# Altium footprint library STC89C52.PcbLib: 17 footprints (part 1 of 2)
Each footprint in its own frame and in the unit in brackets; x right, y up, seen from the top. Pads: shape width x height; smd on the part's side, far side on the other; paste and mask are expansions set on the pad; w line width, h text height; cw(c..) or ccw(c..) is an arc to the next point about the centre after c.
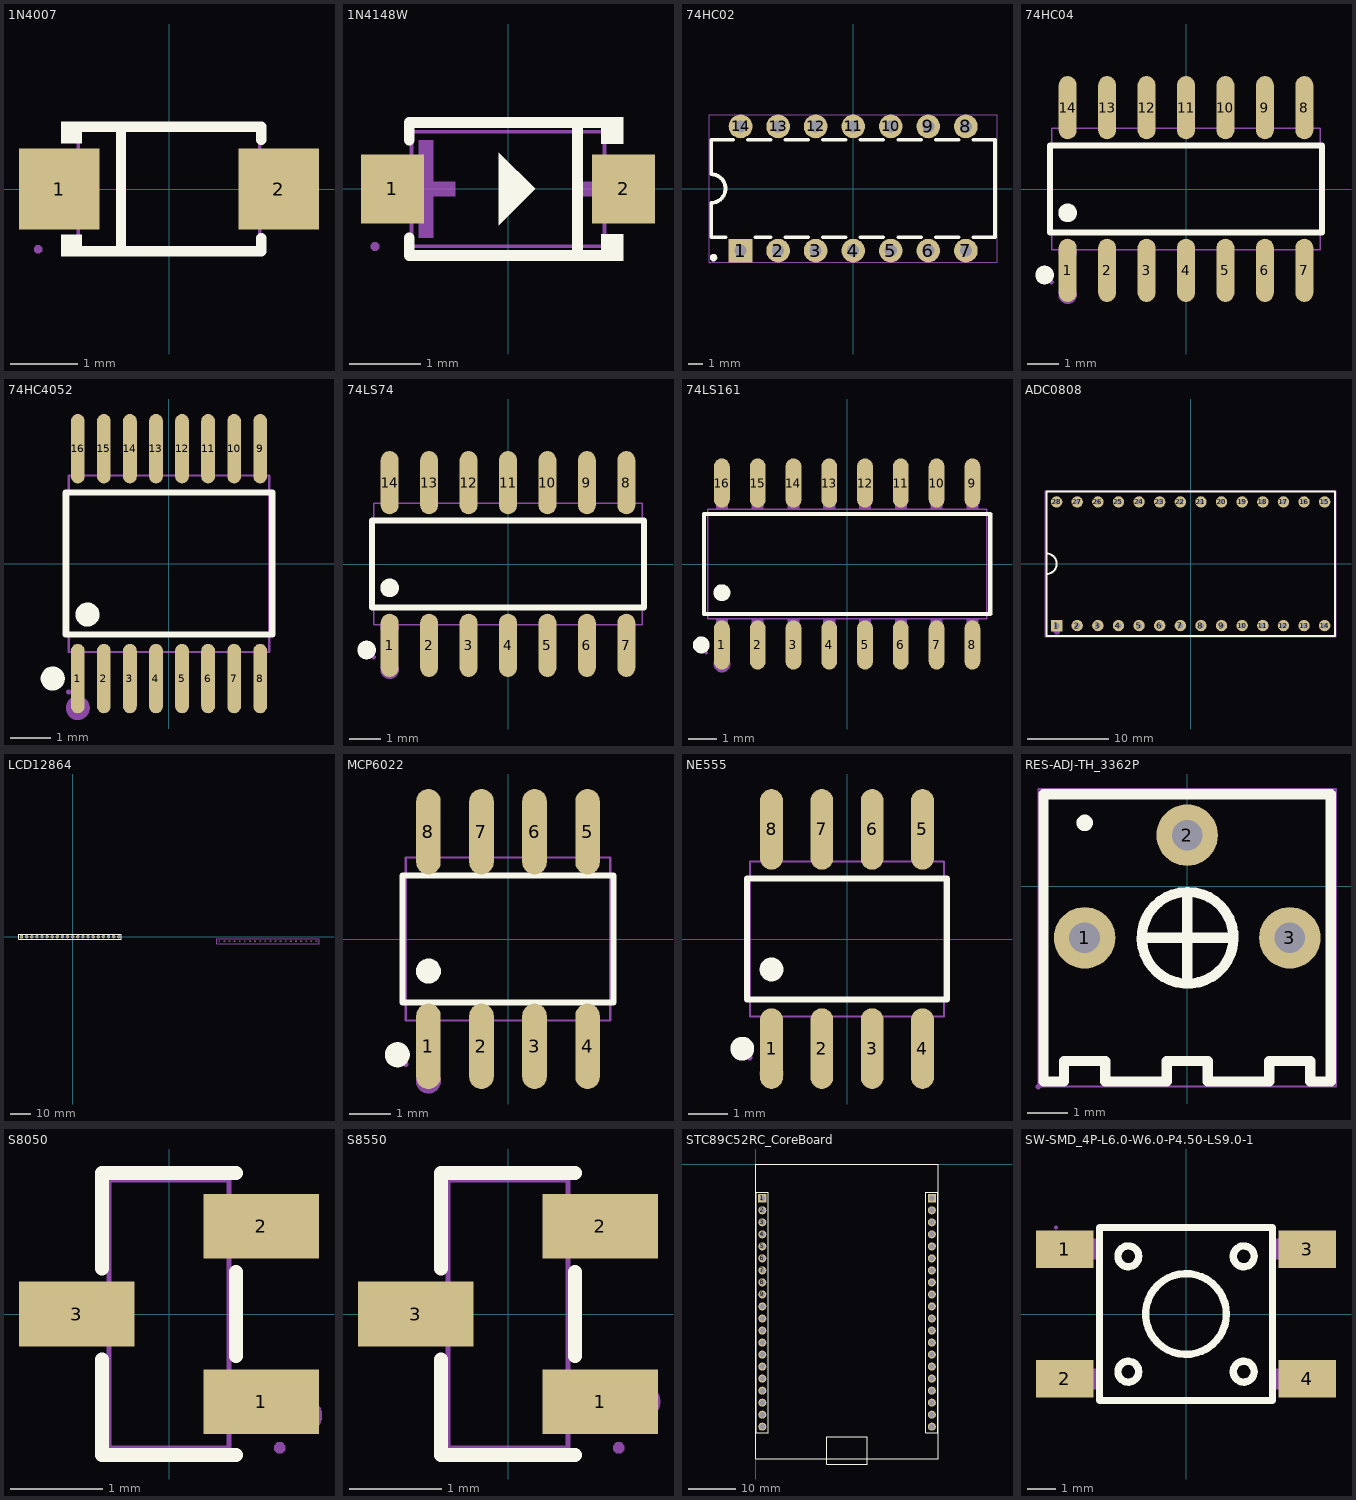
[diagram p0: the footprints below, top view; thin cyan lines are the x and y axes]

## 1N4007 [mm]
pads (2):
  rect 1.2x1.2 smd paste+0.051: 1(-1.635,0) 2(1.635,0)
Top Overlay:
  region: -1.3,-1.002 -1.3,-0.682 -1.605,-0.682 -1.605,-1.002
  region: -1.3,1.002 -1.3,0.682 -1.605,0.682 -1.605,1.002
  lines w0.152: -1.376,-0.926 1.376,-0.926 1.376,-0.733 ; -1.376,0.926 1.376,0.926 1.376,0.733 ; -0.717,-0.876 -0.717,0.876
Mechanical 2:
  region: 1.747,-0.384 1.555,-0.384 1.555,0.384 1.747,0.384
  region: 2.035,0.096 2.035,-0.096 1.267,-0.096 1.267,0.096
  region: -2.032,0.127 -2.032,-0.065 -1.264,-0.065 -1.264,0.127
Mechanical 6:
  lines w0.051: -1.35,-0.9 1.35,-0.9 1.35,0.9 -1.35,0.9 -1.35,-0.9
Mechanical 8:
  region: -1.89,-0.9 -1.89,-0.925 -1.925,-0.96 -1.975,-0.96 -2.01,-0.925 -2.01,-0.9 -2.01,-0.875 -1.975,-0.84 -1.925,-0.84 -1.89,-0.875 -1.89,-0.9
Mechanical 9:
  region: -1.95,0.475 -1.15,0.475 -1.15,-0.475 -1.95,-0.475
  region: 1.95,-0.475 1.15,-0.475 1.15,0.475 1.95,0.475

## 1N4148W [mm]
pads (2):
  rect 0.88x0.96 smd paste+0.051: 1(-1.61,0) 2(1.61,0)
Top Overlay:
  region: 1.3,-1.003 1.3,-0.632 1.605,-0.633 1.605,-1.003
  region: 1.3,1.002 1.3,0.632 1.605,0.632 1.605,1.002
  region: 0.381,0 -0.127,0.508 -0.127,-0.508
  lines w0.152: -1.376,-0.683 -1.376,-0.926 1.376,-0.926 ; -1.376,0.683 -1.376,0.926 1.376,0.926 ; 0.967,-0.926 0.967,0.926
Mechanical 2:
  region: 1.805,-0.102 1.805,0.102 0.989,0.102 0.989,-0.102
  region: -1.551,-0.102 -1.551,0.102 -0.735,0.102 -0.735,-0.102
  region: -1.245,-0.68 -1.245,0.68 -1.041,0.68 -1.041,-0.68
Mechanical 6:
  lines w0.051: -1.345,-0.8 1.345,-0.8 1.345,0.8 -1.345,0.8 -1.345,-0.8
Mechanical 7:
  region: 1.511,-0.3 1.511,0.3 1.34,0.3 1.34,-0.3
  region: -1.511,0.3 -1.511,-0.3 -1.34,-0.3 -1.34,0.3
Mechanical 8:
  region: -1.791,-0.8 -1.791,-0.825 -1.826,-0.86 -1.876,-0.86 -1.911,-0.825 -1.911,-0.8 -1.911,-0.775 -1.876,-0.74 -1.826,-0.74 -1.791,-0.775 -1.791,-0.8
Mechanical 9:
  region: 1.851,-0.3 1.501,-0.3 1.501,0.3 1.851,0.3
  region: -1.851,0.3 -1.501,0.3 -1.501,-0.3 -1.851,-0.3

## 74HC02 [mil]
pads (14):
  rect 63x63 hole 32 paste-99999: 1(-300,-165.35)
  round 63 hole 32 paste-99999: 2(-200,-165.35) 3(-100,-165.35) 4(0,-165.35) 5(100,-165.35) 6(200,-165.35) 7(300,-165.35) 8(300,165.35) 9(200,165.35) 10(100,165.35) 11(0,165.35) 12(-100,165.35) 13(-200,165.35) 14(-300,165.35)
Top Overlay:
  circle w10: c-372,-184 r5
  lines w10: -378,-38 ccw(c-377.98,0) -377.95,37.99 -377.95,129.92 -319.71,129.92 ; -377.95,-38 -377.95,-129.92 -339.69,-129.92 ; -280.29,129.92 -219.72,129.92 ; -260.31,-129.92 -219.72,-129.92 ; -180.28,-129.92 -119.72,-129.92 ; -180.28,129.92 -119.72,129.92 ; -80.28,-129.92 -19.71,-129.92 ; -80.28,129.92 -19.71,129.92 ; 19.71,-129.92 80.28,-129.92 ; 19.71,129.92 80.28,129.92 ; 119.72,-129.92 180.28,-129.92 ; 119.72,129.92 180.28,129.92 ; 219.72,-129.92 280.29,-129.92 ; 219.72,129.92 280.29,129.92 ; 319.71,-129.92 377.95,-129.92 377.95,129.92 319.71,129.92
Mechanical 6:
  lines w2: -382.95,-196.85 -382.95,196.85 382.95,196.85 382.95,-196.85 -382.95,-196.85
Mechanical 8:
  region: -380.59,-196.85 -380.59,-197.83 -381.97,-199.22 -383.93,-199.22 -385.31,-197.83 -385.31,-196.85 -385.31,-195.88 -383.93,-194.49 -381.97,-194.49 -380.59,-195.88 -380.59,-196.85
Mechanical 9:
  drawing of 14 lines, arcs and shapes, not listed

## 74HC04 [mm]
pads (14):
  oval 0.574x2.038 smd paste+0.051: 1(-3.81,-2.619) 2(-2.54,-2.619) 3(-1.27,-2.619) 4(0,-2.619) 5(1.27,-2.619) 6(2.54,-2.619) 7(3.81,-2.619) 8(3.81,2.619) 9(2.54,2.619) 10(1.27,2.619) 11(0,2.619) 12(-1.27,2.619) 13(-2.54,2.619) 14(-3.81,2.619)
Top Overlay:
  circle w0.3: c-3.81,-0.769 r0.15
  circle w0.3: c-4.549,-2.769 r0.15
  circle w0.3: c-4.549,-2.769 r0.15
  circle w0.3: c-3.81,-0.769 r0.15
  lines w0.2: -4.381,-1.397 -4.381,1.397 4.381,1.397 4.381,-1.397 -4.381,-1.397
Mechanical 2:
  circle w0.3: c-3.81,-2.037 r0.15
  circle w0.3: c-3.81,-3.4 r0.15
Mechanical 6:
  lines w0.051: -4.325,-1.95 4.325,-1.95 ; -4.325,-1.95 -4.325,1.95 ; -4.325,-1.95 4.325,-1.95 ; -4.325,-1.95 -4.325,1.95 ; -4.325,1.95 4.325,1.95 ; -4.325,1.95 4.325,1.95 ; 4.325,-1.95 4.325,1.95 ; 4.325,-1.95 4.325,1.95
Mechanical 7:
  region: -4.015,-2.175 -4.015,-1.94 -3.605,-1.94 -3.605,-2.175
  region: -2.745,-2.175 -2.745,-1.94 -2.335,-1.94 -2.335,-2.175
  region: -1.475,-2.175 -1.475,-1.94 -1.065,-1.94 -1.065,-2.175
  region: -0.205,-2.175 -0.205,-1.94 0.205,-1.94 0.205,-2.175
  region: 1.065,-2.175 1.065,-1.94 1.475,-1.94 1.475,-2.175
  region: 2.335,-2.175 2.335,-1.94 2.745,-1.94 2.745,-2.175
  region: 3.605,-2.175 3.605,-1.94 4.015,-1.94 4.015,-2.175
  region: -4.015,2.175 -4.015,1.94 -3.605,1.94 -3.605,2.175
  region: -2.745,2.175 -2.745,1.94 -2.335,1.94 -2.335,2.175
  region: -1.475,2.175 -1.475,1.94 -1.065,1.94 -1.065,2.175
  region: -0.205,2.175 -0.205,1.94 0.205,1.94 0.205,2.175
  region: 1.065,2.175 1.065,1.94 1.475,1.94 1.475,2.175
  region: 2.335,2.175 2.335,1.94 2.745,1.94 2.745,2.175
  region: 3.605,2.175 3.605,1.94 4.015,1.94 4.015,2.175
  region: 3.605,2.175 3.605,1.94 4.015,1.94 4.015,2.175
  region: 2.335,2.175 2.335,1.94 2.745,1.94 2.745,2.175
  region: 1.065,2.175 1.065,1.94 1.475,1.94 1.475,2.175
  region: -0.205,2.175 -0.205,1.94 0.205,1.94 0.205,2.175
  region: -1.475,2.175 -1.475,1.94 -1.065,1.94 -1.065,2.175
  region: -2.745,2.175 -2.745,1.94 -2.335,1.94 -2.335,2.175
  region: -4.015,2.175 -4.015,1.94 -3.605,1.94 -3.605,2.175
  region: 3.605,-2.175 3.605,-1.94 4.015,-1.94 4.015,-2.175
  region: 2.335,-2.175 2.335,-1.94 2.745,-1.94 2.745,-2.175
  region: 1.065,-2.175 1.065,-1.94 1.475,-1.94 1.475,-2.175
  region: -0.205,-2.175 -0.205,-1.94 0.205,-1.94 0.205,-2.175
  region: -1.475,-2.175 -1.475,-1.94 -1.065,-1.94 -1.065,-2.175
  region: -2.745,-2.175 -2.745,-1.94 -2.335,-1.94 -2.335,-2.175
  region: -4.015,-2.175 -4.015,-1.94 -3.605,-1.94 -3.605,-2.175
Mechanical 8:
  region: -4.265,-3 -4.265,-3.025 -4.3,-3.06 -4.35,-3.06 -4.385,-3.025 -4.385,-3 -4.385,-2.975 -4.35,-2.94 -4.3,-2.94 -4.265,-2.975 -4.265,-3
  region: -4.265,-3 -4.265,-3.025 -4.3,-3.06 -4.35,-3.06 -4.385,-3.025 -4.385,-3 -4.385,-2.975 -4.35,-2.94 -4.3,-2.94 -4.265,-2.975 -4.265,-3
Mechanical 9:
  region: -4.015,-3 -4.015,-2.165 -3.605,-2.165 -3.605,-3
  region: -2.745,-3 -2.745,-2.165 -2.335,-2.165 -2.335,-3
  region: -1.475,-3 -1.475,-2.165 -1.065,-2.165 -1.065,-3
  region: -0.205,-3 -0.205,-2.165 0.205,-2.165 0.205,-3
  region: 1.065,-3 1.065,-2.165 1.475,-2.165 1.475,-3
  region: 2.335,-3 2.335,-2.165 2.745,-2.165 2.745,-3
  region: 3.605,-3 3.605,-2.165 4.015,-2.165 4.015,-3
  region: -4.015,3 -4.015,2.165 -3.605,2.165 -3.605,3
  region: -2.745,3 -2.745,2.165 -2.335,2.165 -2.335,3
  region: -1.475,3 -1.475,2.165 -1.065,2.165 -1.065,3
  region: -0.205,3 -0.205,2.165 0.205,2.165 0.205,3
  region: 1.065,3 1.065,2.165 1.475,2.165 1.475,3
  region: 2.335,3 2.335,2.165 2.745,2.165 2.745,3
  region: 3.605,3 3.605,2.165 4.015,2.165 4.015,3
  region: 3.605,3 3.605,2.165 4.015,2.165 4.015,3
  region: 2.335,3 2.335,2.165 2.745,2.165 2.745,3
  region: 1.065,3 1.065,2.165 1.475,2.165 1.475,3
  region: -0.205,3 -0.205,2.165 0.205,2.165 0.205,3
  region: -1.475,3 -1.475,2.165 -1.065,2.165 -1.065,3
  region: -2.745,3 -2.745,2.165 -2.335,2.165 -2.335,3
  region: -4.015,3 -4.015,2.165 -3.605,2.165 -3.605,3
  region: 3.605,-3 3.605,-2.165 4.015,-2.165 4.015,-3
  region: 2.335,-3 2.335,-2.165 2.745,-2.165 2.745,-3
  region: 1.065,-3 1.065,-2.165 1.475,-2.165 1.475,-3
  region: -0.205,-3 -0.205,-2.165 0.205,-2.165 0.205,-3
  region: -1.475,-3 -1.475,-2.165 -1.065,-2.165 -1.065,-3
  region: -2.745,-3 -2.745,-2.165 -2.335,-2.165 -2.335,-3
  region: -4.015,-3 -4.015,-2.165 -3.605,-2.165 -3.605,-3

## 74HC4052 [mm]
pads (16):
  oval 0.343x1.731 smd paste+0.051: 1(-2.275,-2.866) 2(-1.625,-2.866) 3(-0.975,-2.866) 4(-0.325,-2.866) 5(0.325,-2.866) 6(0.975,-2.866) 7(1.625,-2.866) 8(2.275,-2.866) 9(2.275,2.866) 10(1.625,2.866) 11(0.975,2.866) 12(0.325,2.866) 13(-0.325,2.866) 14(-0.975,2.866) 15(-1.625,2.866) 16(-2.275,2.866)
Top Overlay:
  circle w0.3: c-2.032,-1.27 r0.15
  circle w0.3: c-2.899,-2.866 r0.15
  lines w0.152: -2.576,-1.771 -2.576,1.772 2.576,1.772 2.576,-1.771 -2.576,-1.771
Mechanical 2:
  circle w0.3: c-2.275,-3.6 r0.15
Mechanical 6:
  lines w0.051: -2.5,-2.2 -2.5,2.2 2.5,2.2 2.5,-2.2 -2.5,-2.2
Mechanical 7:
  region: -2.398,-2.61 -2.398,-2.19 -2.152,-2.19 -2.152,-2.61
  region: -1.747,-2.61 -1.747,-2.19 -1.503,-2.19 -1.503,-2.61
  region: -1.098,-2.61 -1.098,-2.19 -0.853,-2.19 -0.853,-2.61
  region: -0.447,-2.61 -0.447,-2.19 -0.202,-2.19 -0.202,-2.61
  region: 0.202,-2.61 0.202,-2.19 0.447,-2.19 0.447,-2.61
  region: 0.853,-2.61 0.853,-2.19 1.098,-2.19 1.098,-2.61
  region: 1.503,-2.61 1.503,-2.19 1.747,-2.19 1.747,-2.61
  region: 2.152,-2.61 2.152,-2.19 2.398,-2.19 2.398,-2.61
  region: -2.398,2.61 -2.398,2.19 -2.152,2.19 -2.152,2.61
  region: -1.747,2.61 -1.747,2.19 -1.503,2.19 -1.503,2.61
  region: -1.098,2.61 -1.098,2.19 -0.853,2.19 -0.853,2.61
  region: -0.447,2.61 -0.447,2.19 -0.202,2.19 -0.202,2.61
  region: 0.202,2.61 0.202,2.19 0.447,2.19 0.447,2.61
  region: 0.853,2.61 0.853,2.19 1.098,2.19 1.098,2.61
  region: 1.503,2.61 1.503,2.19 1.747,2.19 1.747,2.61
  region: 2.152,2.61 2.152,2.19 2.398,2.19 2.398,2.61
Mechanical 8:
  region: -2.44,-3.2 -2.44,-3.225 -2.475,-3.26 -2.525,-3.26 -2.56,-3.225 -2.56,-3.2 -2.56,-3.175 -2.525,-3.14 -2.475,-3.14 -2.44,-3.175 -2.44,-3.2
Mechanical 9:
  region: -2.398,-3.2 -2.398,-2.6 -2.152,-2.6 -2.152,-3.2
  region: -1.747,-3.2 -1.747,-2.6 -1.503,-2.6 -1.503,-3.2
  region: -1.098,-3.2 -1.098,-2.6 -0.853,-2.6 -0.853,-3.2
  region: -0.447,-3.2 -0.447,-2.6 -0.202,-2.6 -0.202,-3.2
  region: 0.202,-3.2 0.202,-2.6 0.447,-2.6 0.447,-3.2
  region: 0.853,-3.2 0.853,-2.6 1.098,-2.6 1.098,-3.2
  region: 1.503,-3.2 1.503,-2.6 1.747,-2.6 1.747,-3.2
  region: 2.152,-3.2 2.152,-2.6 2.398,-2.6 2.398,-3.2
  region: -2.398,3.2 -2.398,2.6 -2.152,2.6 -2.152,3.2
  region: -1.747,3.2 -1.747,2.6 -1.503,2.6 -1.503,3.2
  region: -1.098,3.2 -1.098,2.6 -0.853,2.6 -0.853,3.2
  region: -0.447,3.2 -0.447,2.6 -0.202,2.6 -0.202,3.2
  region: 0.202,3.2 0.202,2.6 0.447,2.6 0.447,3.2
  region: 0.853,3.2 0.853,2.6 1.098,2.6 1.098,3.2
  region: 1.503,3.2 1.503,2.6 1.747,2.6 1.747,3.2
  region: 2.152,3.2 2.152,2.6 2.398,2.6 2.398,3.2

## 74LS74 [mm]
pads (14):
  oval 0.574x2.038 smd paste+0.051: 1(-3.81,-2.619) 2(-2.54,-2.619) 3(-1.27,-2.619) 4(0,-2.619) 5(1.27,-2.619) 6(2.54,-2.619) 7(3.81,-2.619) 8(3.81,2.619) 9(2.54,2.619) 10(1.27,2.619) 11(0,2.619) 12(-1.27,2.619) 13(-2.54,2.619) 14(-3.81,2.619)
Top Overlay:
  circle w0.3: c-3.81,-0.769 r0.15
  circle w0.3: c-4.549,-2.769 r0.15
  circle w0.3: c-4.549,-2.769 r0.15
  circle w0.3: c-3.81,-0.769 r0.15
  lines w0.2: -4.381,-1.397 4.381,-1.397 4.381,1.397 -4.381,1.397 -4.381,-1.397
Mechanical 2:
  circle w0.3: c-3.81,-3.4 r0.15
  circle w0.3: c-3.81,-2.037 r0.15
Mechanical 6:
  lines w0.051: -4.325,-1.95 -4.325,1.95 ; -4.325,-1.95 4.325,-1.95 ; -4.325,-1.95 -4.325,1.95 ; -4.325,-1.95 4.325,-1.95 ; -4.325,1.95 4.325,1.95 ; -4.325,1.95 4.325,1.95 ; 4.325,-1.95 4.325,1.95 ; 4.325,-1.95 4.325,1.95
Mechanical 7:
  region: -4.015,-2.175 -4.015,-1.94 -3.605,-1.94 -3.605,-2.175
  region: -2.745,-2.175 -2.745,-1.94 -2.335,-1.94 -2.335,-2.175
  region: -1.475,-2.175 -1.475,-1.94 -1.065,-1.94 -1.065,-2.175
  region: -0.205,-2.175 -0.205,-1.94 0.205,-1.94 0.205,-2.175
  region: 1.065,-2.175 1.065,-1.94 1.475,-1.94 1.475,-2.175
  region: 2.335,-2.175 2.335,-1.94 2.745,-1.94 2.745,-2.175
  region: 3.605,-2.175 3.605,-1.94 4.015,-1.94 4.015,-2.175
  region: -4.015,2.175 -4.015,1.94 -3.605,1.94 -3.605,2.175
  region: -2.745,2.175 -2.745,1.94 -2.335,1.94 -2.335,2.175
  region: -1.475,2.175 -1.475,1.94 -1.065,1.94 -1.065,2.175
  region: -0.205,2.175 -0.205,1.94 0.205,1.94 0.205,2.175
  region: 1.065,2.175 1.065,1.94 1.475,1.94 1.475,2.175
  region: 2.335,2.175 2.335,1.94 2.745,1.94 2.745,2.175
  region: 3.605,2.175 3.605,1.94 4.015,1.94 4.015,2.175
  region: 3.605,2.175 3.605,1.94 4.015,1.94 4.015,2.175
  region: 2.335,2.175 2.335,1.94 2.745,1.94 2.745,2.175
  region: 1.065,2.175 1.065,1.94 1.475,1.94 1.475,2.175
  region: -0.205,2.175 -0.205,1.94 0.205,1.94 0.205,2.175
  region: -1.475,2.175 -1.475,1.94 -1.065,1.94 -1.065,2.175
  region: -2.745,2.175 -2.745,1.94 -2.335,1.94 -2.335,2.175
  region: -4.015,2.175 -4.015,1.94 -3.605,1.94 -3.605,2.175
  region: 3.605,-2.175 3.605,-1.94 4.015,-1.94 4.015,-2.175
  region: 2.335,-2.175 2.335,-1.94 2.745,-1.94 2.745,-2.175
  region: 1.065,-2.175 1.065,-1.94 1.475,-1.94 1.475,-2.175
  region: -0.205,-2.175 -0.205,-1.94 0.205,-1.94 0.205,-2.175
  region: -1.475,-2.175 -1.475,-1.94 -1.065,-1.94 -1.065,-2.175
  region: -2.745,-2.175 -2.745,-1.94 -2.335,-1.94 -2.335,-2.175
  region: -4.015,-2.175 -4.015,-1.94 -3.605,-1.94 -3.605,-2.175
Mechanical 8:
  region: -4.265,-3 -4.265,-3.025 -4.3,-3.06 -4.35,-3.06 -4.385,-3.025 -4.385,-3 -4.385,-2.975 -4.35,-2.94 -4.3,-2.94 -4.265,-2.975 -4.265,-3
  region: -4.265,-3 -4.265,-3.025 -4.3,-3.06 -4.35,-3.06 -4.385,-3.025 -4.385,-3 -4.385,-2.975 -4.35,-2.94 -4.3,-2.94 -4.265,-2.975 -4.265,-3
Mechanical 9:
  region: -4.015,-3 -4.015,-2.165 -3.605,-2.165 -3.605,-3
  region: -2.745,-3 -2.745,-2.165 -2.335,-2.165 -2.335,-3
  region: -1.475,-3 -1.475,-2.165 -1.065,-2.165 -1.065,-3
  region: -0.205,-3 -0.205,-2.165 0.205,-2.165 0.205,-3
  region: 1.065,-3 1.065,-2.165 1.475,-2.165 1.475,-3
  region: 2.335,-3 2.335,-2.165 2.745,-2.165 2.745,-3
  region: 3.605,-3 3.605,-2.165 4.015,-2.165 4.015,-3
  region: -4.015,3 -4.015,2.165 -3.605,2.165 -3.605,3
  region: -2.745,3 -2.745,2.165 -2.335,2.165 -2.335,3
  region: -1.475,3 -1.475,2.165 -1.065,2.165 -1.065,3
  region: -0.205,3 -0.205,2.165 0.205,2.165 0.205,3
  region: 1.065,3 1.065,2.165 1.475,2.165 1.475,3
  region: 2.335,3 2.335,2.165 2.745,2.165 2.745,3
  region: 3.605,3 3.605,2.165 4.015,2.165 4.015,3
  region: 3.605,3 3.605,2.165 4.015,2.165 4.015,3
  region: 2.335,3 2.335,2.165 2.745,2.165 2.745,3
  region: 1.065,3 1.065,2.165 1.475,2.165 1.475,3
  region: -0.205,3 -0.205,2.165 0.205,2.165 0.205,3
  region: -1.475,3 -1.475,2.165 -1.065,2.165 -1.065,3
  region: -2.745,3 -2.745,2.165 -2.335,2.165 -2.335,3
  region: -4.015,3 -4.015,2.165 -3.605,2.165 -3.605,3
  region: 3.605,-3 3.605,-2.165 4.015,-2.165 4.015,-3
  region: 2.335,-3 2.335,-2.165 2.745,-2.165 2.745,-3
  region: 1.065,-3 1.065,-2.165 1.475,-2.165 1.475,-3
  region: -0.205,-3 -0.205,-2.165 0.205,-2.165 0.205,-3
  region: -1.475,-3 -1.475,-2.165 -1.065,-2.165 -1.065,-3
  region: -2.745,-3 -2.745,-2.165 -2.335,-2.165 -2.335,-3
  region: -4.015,-3 -4.015,-2.165 -3.605,-2.165 -3.605,-3

## 74LS161 [mm]
pads (16):
  oval 0.56x1.745 smd paste+0.051: 1(-4.445,-2.872) 2(-3.175,-2.872) 3(-1.905,-2.872) 4(-0.635,-2.872) 5(0.635,-2.872) 6(1.905,-2.872) 7(3.175,-2.872) 8(4.445,-2.872) 9(4.445,2.872) 10(3.175,2.872) 11(1.905,2.872) 12(0.635,2.872) 13(-0.635,2.872) 14(-1.905,2.872) 15(-3.175,2.872) 16(-4.445,2.872)
Top Overlay:
  circle w0.3: c-5.177,-2.872 r0.15
  circle w0.3: c-4.445,-1.019 r0.15
  lines w0.152: -5.076,-1.771 5.076,-1.771 5.076,1.771 -5.076,1.771 -5.076,-1.771
Mechanical 2:
  circle w0.3: c-4.445,-3.55 r0.15
Mechanical 6:
  lines w0.051: -4.95,-1.95 4.95,-1.95 4.95,1.95 -4.95,1.95 -4.95,-1.95
Mechanical 7:
  region: -4.65,-2.175 -4.65,-1.94 -4.24,-1.94 -4.24,-2.175
  region: -3.38,-2.175 -3.38,-1.94 -2.97,-1.94 -2.97,-2.175
  region: -2.11,-2.175 -2.11,-1.94 -1.7,-1.94 -1.7,-2.175
  region: -0.84,-2.175 -0.84,-1.94 -0.43,-1.94 -0.43,-2.175
  region: 0.43,-2.175 0.43,-1.94 0.84,-1.94 0.84,-2.175
  region: 1.7,-2.175 1.7,-1.94 2.11,-1.94 2.11,-2.175
  region: 2.97,-2.175 2.97,-1.94 3.38,-1.94 3.38,-2.175
  region: 4.24,-2.175 4.24,-1.94 4.65,-1.94 4.65,-2.175
  region: -4.65,1.94 -4.65,2.175 -4.24,2.175 -4.24,1.94
  region: -3.38,1.94 -3.38,2.175 -2.97,2.175 -2.97,1.94
  region: -2.11,1.94 -2.11,2.175 -1.7,2.175 -1.7,1.94
  region: -0.84,1.94 -0.84,2.175 -0.43,2.175 -0.43,1.94
  region: 0.43,1.94 0.43,2.175 0.84,2.175 0.84,1.94
  region: 1.7,1.94 1.7,2.175 2.11,2.175 2.11,1.94
  region: 2.97,1.94 2.97,2.175 3.38,2.175 3.38,1.94
  region: 4.24,1.94 4.24,2.175 4.65,2.175 4.65,1.94
Mechanical 8:
  region: -4.94,-3.15 -4.94,-3.175 -4.975,-3.21 -5.025,-3.21 -5.06,-3.175 -5.06,-3.15 -5.06,-3.125 -5.025,-3.09 -4.975,-3.09 -4.94,-3.125 -4.94,-3.15
Mechanical 9:
  region: -4.65,-3 -4.65,-2.165 -4.24,-2.165 -4.24,-3
  region: -3.38,-3 -3.38,-2.165 -2.97,-2.165 -2.97,-3
  region: -2.11,-3 -2.11,-2.165 -1.7,-2.165 -1.7,-3
  region: -0.84,-3 -0.84,-2.165 -0.43,-2.165 -0.43,-3
  region: 0.43,-3 0.43,-2.165 0.84,-2.165 0.84,-3
  region: 1.7,-3 1.7,-2.165 2.11,-2.165 2.11,-3
  region: 2.97,-3 2.97,-2.165 3.38,-2.165 3.38,-3
  region: 4.24,-3 4.24,-2.165 4.65,-2.165 4.65,-3
  region: -4.65,2.165 -4.65,3 -4.24,3 -4.24,2.165
  region: -3.38,2.165 -3.38,3 -2.97,3 -2.97,2.165
  region: -2.11,2.165 -2.11,3 -1.7,3 -1.7,2.165
  region: -0.84,2.165 -0.84,3 -0.43,3 -0.43,2.165
  region: 0.43,2.165 0.43,3 0.84,3 0.84,2.165
  region: 1.7,2.165 1.7,3 2.11,3 2.11,2.165
  region: 2.97,2.165 2.97,3 3.38,3 3.38,2.165
  region: 4.24,2.165 4.24,3 4.65,3 4.65,2.165

## ADC0808 [mm]
pads (28):
  rect 1.4x1.4 hole 0.7 paste-2539.97: 1(-16.51,-7.62)
  round 1.4 hole 0.7 paste-2539.97: 2(-13.97,-7.62) 3(-11.43,-7.62) 4(-8.89,-7.62) 5(-6.35,-7.62) 6(-3.81,-7.62) 7(-1.27,-7.62) 8(1.27,-7.62) 9(3.81,-7.62) 10(6.35,-7.62) 11(8.89,-7.62) 12(11.43,-7.62) 13(13.97,-7.62) 14(16.51,-7.62) 15(16.51,7.62) 16(13.97,7.62) 17(11.43,7.62) 18(8.89,7.62) 19(6.35,7.62) 20(3.81,7.62) 21(1.27,7.62) 22(-1.268,7.62) 23(-3.81,7.62) 24(-6.35,7.62) 25(-8.89,7.62) 26(-11.43,7.62) 27(-13.97,7.62) 28(-16.51,7.62)
Top Overlay:
  lines w0.254: -17.78,-1.27 ccw(c-17.78,0) -17.78,1.27 ; -17.78,-8.89 -17.78,8.89 17.78,8.89 17.78,-8.89 -17.78,-8.89
Mechanical 2:
  circle w0.4: c-16.47,-8.319 r0.2
Mechanical 6:
  lines w0.051: -17.907,-9.017 -17.907,9.017 17.907,9.017 17.907,-9.017 -17.907,-9.017
Mechanical 8:
  region: -17.847,-9.017 -17.847,-9.042 -17.882,-9.077 -17.932,-9.077 -17.967,-9.042 -17.967,-9.017 -17.967,-8.992 -17.932,-8.957 -17.882,-8.957 -17.847,-8.992 -17.847,-9.017
Mechanical 9:
  drawing of 28 lines, arcs and shapes, not listed

## LCD12864 [mm]
pads (20):
  rect 1.65x1.65 hole 1.02 paste-2539.97: 1(-25.34,0.167)
  round 1.65 hole 1.02 paste-2539.97: 2(-22.8,0.167) 3(-20.26,0.167) 4(-17.72,0.167) 5(-15.18,0.167) 6(-12.64,0.167) 7(-10.1,0.167) 8(-7.56,0.167) 9(-5.02,0.167) 10(-2.48,0.167) 11(0.06,0.167) 12(2.6,0.167) 13(5.14,0.167) 14(7.68,0.167) 15(10.22,0.167) 16(12.76,0.167) 17(15.3,0.167) 18(17.84,0.167) 19(20.38,0.167) 20(22.92,0.167)
Top Overlay:
  lines w0.254: -26.61,-1.083 -26.61,1.417 24.19,1.417 24.19,-1.083 -26.61,-1.083
Mechanical 6:
  lines w0.051: 71.561,-3.369 122.361,-3.369 122.361,-0.869 71.561,-0.869 71.561,-3.369
Mechanical 8:
  region: 71.621,-3.369 71.621,-3.394 71.586,-3.429 71.536,-3.429 71.501,-3.394 71.501,-3.369 71.501,-3.344 71.536,-3.309 71.586,-3.309 71.621,-3.344 71.621,-3.369
Mechanical 9:
  region: 72.511,-1.919 73.151,-1.919 73.151,-2.319 72.511,-2.319
  region: 75.051,-1.919 75.691,-1.919 75.691,-2.319 75.051,-2.319
  region: 77.591,-1.919 78.231,-1.919 78.231,-2.319 77.591,-2.319
  region: 80.131,-1.919 80.771,-1.919 80.771,-2.319 80.131,-2.319
  region: 82.671,-1.919 83.311,-1.919 83.311,-2.319 82.671,-2.319
  region: 85.211,-1.919 85.851,-1.919 85.851,-2.319 85.211,-2.319
  region: 87.751,-1.919 88.391,-1.919 88.391,-2.319 87.751,-2.319
  region: 90.291,-1.919 90.931,-1.919 90.931,-2.319 90.291,-2.319
  region: 92.831,-1.919 93.471,-1.919 93.471,-2.319 92.831,-2.319
  region: 95.371,-1.919 96.011,-1.919 96.011,-2.319 95.371,-2.319
  region: 97.911,-1.919 98.551,-1.919 98.551,-2.319 97.911,-2.319
  region: 100.451,-1.919 101.091,-1.919 101.091,-2.319 100.451,-2.319
  region: 102.991,-1.919 103.631,-1.919 103.631,-2.319 102.991,-2.319
  region: 105.531,-1.919 106.171,-1.919 106.171,-2.319 105.531,-2.319
  region: 108.071,-1.919 108.711,-1.919 108.711,-2.319 108.071,-2.319
  region: 110.611,-1.919 111.251,-1.919 111.251,-2.319 110.611,-2.319
  region: 113.151,-1.919 113.791,-1.919 113.791,-2.319 113.151,-2.319
  region: 115.691,-1.919 116.331,-1.919 116.331,-2.319 115.691,-2.319
  region: 118.231,-1.919 118.871,-1.919 118.871,-2.319 118.231,-2.319
  region: 120.771,-1.919 121.411,-1.919 121.411,-2.319 120.771,-2.319

## MCP6022 [mm]
pads (8):
  oval 0.588x2.045 smd paste+0.051: 1(-1.905,-2.57) 2(-0.635,-2.57) 3(0.635,-2.57) 4(1.905,-2.57) 5(1.905,2.57) 6(0.635,2.57) 7(-0.635,2.57) 8(-1.905,2.57)
Top Overlay:
  circle w0.3: c-1.905,-0.769 r0.15
  circle w0.3: c-2.652,-2.772 r0.15
  lines w0.152: -2.526,-1.521 -2.526,1.521 2.526,1.521 2.526,-1.521 -2.526,-1.521
Mechanical 2:
  circle w0.3: c-1.905,-3.4 r0.15
Mechanical 6:
  lines w0.051: -2.45,-1.95 -2.45,1.95 2.45,1.95 2.45,-1.95 -2.45,-1.95
Mechanical 7:
  region: -2.115,-2.175 -2.115,-1.94 -1.695,-1.94 -1.695,-2.175
  region: -0.845,-2.175 -0.845,-1.94 -0.425,-1.94 -0.425,-2.175
  region: 0.425,-2.175 0.425,-1.94 0.845,-1.94 0.845,-2.175
  region: 1.695,-2.175 1.695,-1.94 2.115,-1.94 2.115,-2.175
  region: -2.115,2.175 -2.115,1.94 -1.695,1.94 -1.695,2.175
  region: -0.845,2.175 -0.845,1.94 -0.425,1.94 -0.425,2.175
  region: 0.425,2.175 0.425,1.94 0.845,1.94 0.845,2.175
  region: 1.695,2.175 1.695,1.94 2.115,1.94 2.115,2.175
Mechanical 8:
  region: -2.39,-3 -2.39,-3.025 -2.425,-3.06 -2.475,-3.06 -2.51,-3.025 -2.51,-3 -2.51,-2.975 -2.475,-2.94 -2.425,-2.94 -2.39,-2.975 -2.39,-3
Mechanical 9:
  region: -2.115,-3 -2.115,-2.165 -1.695,-2.165 -1.695,-3
  region: -0.845,-3 -0.845,-2.165 -0.425,-2.165 -0.425,-3
  region: 0.425,-3 0.425,-2.165 0.845,-2.165 0.845,-3
  region: 1.695,-3 1.695,-2.165 2.115,-2.165 2.115,-3
  region: -2.115,3 -2.115,2.165 -1.695,2.165 -1.695,3
  region: -0.845,3 -0.845,2.165 -0.425,2.165 -0.425,3
  region: 0.425,3 0.425,2.165 0.845,2.165 0.845,3
  region: 1.695,3 1.695,2.165 2.115,2.165 2.115,3

## NE555 [mm]
pads (8):
  oval 0.574x2.036 smd paste+0.051: 1(-1.905,-2.768) 2(-0.635,-2.768) 3(0.635,-2.768) 4(1.905,-2.768) 5(1.905,2.768) 6(0.635,2.768) 7(-0.635,2.768) 8(-1.905,2.768)
Top Overlay:
  circle w0.3: c-2.644,-2.768 r0.15
  circle w0.3: c-1.905,-0.769 r0.15
  lines w0.152: -2.526,-1.521 2.526,-1.521 2.526,1.521 -2.526,1.521 -2.526,-1.521
Mechanical 2:
  circle w0.3: c-1.905,-3.398 r0.15
Mechanical 6:
  lines w0.051: -2.45,-1.95 2.45,-1.95 2.45,1.95 -2.45,1.95 -2.45,-1.95
Mechanical 7:
  region: 1.7,2.172 1.7,1.94 2.11,1.94 2.11,2.172
  region: 0.43,2.172 0.43,1.94 0.84,1.94 0.84,2.172
  region: -0.84,2.172 -0.84,1.94 -0.43,1.94 -0.43,2.172
  region: -2.11,2.172 -2.11,1.94 -1.7,1.94 -1.7,2.172
  region: 1.7,-2.172 1.7,-1.94 2.11,-1.94 2.11,-2.172
  region: 0.43,-2.172 0.43,-1.94 0.84,-1.94 0.84,-2.172
  region: -0.84,-2.172 -0.84,-1.94 -0.43,-1.94 -0.43,-2.172
  region: -2.11,-2.172 -2.11,-1.94 -1.7,-1.94 -1.7,-2.172
Mechanical 8:
  region: -2.39,-2.997 -2.39,-3.022 -2.425,-3.057 -2.475,-3.057 -2.51,-3.022 -2.51,-2.997 -2.51,-2.973 -2.475,-2.937 -2.425,-2.937 -2.39,-2.973 -2.39,-2.997
Mechanical 9:
  region: 1.7,2.998 1.7,2.163 2.11,2.163 2.11,2.998
  region: 0.43,2.998 0.43,2.163 0.84,2.163 0.84,2.998
  region: -0.84,2.998 -0.84,2.163 -0.43,2.163 -0.43,2.998
  region: -2.11,2.998 -2.11,2.163 -1.7,2.163 -1.7,2.998
  region: 1.7,-2.998 1.7,-2.163 2.11,-2.163 2.11,-2.998
  region: 0.43,-2.998 0.43,-2.163 0.84,-2.163 0.84,-2.998
  region: -0.84,-2.998 -0.84,-2.163 -0.43,-2.163 -0.43,-2.998
  region: -2.11,-2.998 -2.11,-2.163 -1.7,-2.163 -1.7,-2.998

## RES-ADJ-TH_3362P [mil]
pads (3):
  round 60 hole 30 paste-99999: 1(-100,-50) 2(0,50) 3(100,-50)
Top Overlay:
  lines w10: -100,65 ccw(c-99.95,62) -99.9,65 ; -40,-50 40,-50 ; 0,-90 0,-10 ; 0,-5.3 ccw(c0.4,-50.02) 0.8,-5.3 ; 140,-30 140,90 -140,90 -140,-30 -140,-170 -140,-190 -120,-190 -120,-170 -80,-170 -80,-190 -20,-190 -20,-170 20,-170 20,-190 80,-190 80,-170 120,-170 120,-190 140,-190 140,-170 140,-10
Mechanical 6:
  lines w2: -145,-195 145,-195 145,95 -145,95 -145,-195
Mechanical 8:
  region: -142.64,-195 -142.64,-195.98 -144.02,-197.36 -145.98,-197.36 -147.36,-195.98 -147.36,-195 -147.36,-194.02 -145.98,-192.64 -144.02,-192.64 -142.64,-194.02 -142.64,-195
Mechanical 9:
  region: 111.06,-50 111.06,-52.2 109.38,-56.27 106.27,-59.38 102.2,-61.06 97.8,-61.06 93.73,-59.38 90.62,-56.27 88.94,-52.2 88.94,-50 88.94,-47.8 90.62,-43.73 93.73,-40.62 97.8,-38.94 102.2,-38.94 106.27,-40.62 109.38,-43.73 111.06,-47.8 111.06,-50
  region: 11.06,50 11.06,47.8 9.38,43.73 6.27,40.62 2.2,38.94 -2.2,38.94 -6.27,40.62 -9.38,43.73 -11.06,47.8 -11.06,50 -11.06,52.2 -9.38,56.27 -6.27,59.38 -2.2,61.06 2.2,61.06 6.27,59.38 9.38,56.27 11.06,52.2 11.06,50
  region: -88.94,-50 -88.94,-52.2 -90.62,-56.27 -93.73,-59.38 -97.8,-61.06 -102.2,-61.06 -106.27,-59.38 -109.38,-56.27 -111.06,-52.2 -111.06,-50 -111.06,-47.8 -109.38,-43.73 -106.27,-40.62 -102.2,-38.94 -97.8,-38.94 -93.73,-40.62 -90.62,-43.73 -88.94,-47.8 -88.94,-50

## S8050 [mm]
pads (3):
  rect 1.25x0.7 smd paste+0.051: 1(1,-0.95) 2(1,0.95) 3(-1,0)
Top Overlay:
  lines w0.152: -0.726,-0.495 -0.726,-1.526 0.726,-1.526 ; -0.726,0.495 -0.726,1.526 0.726,1.526 ; 0.726,-0.455 0.726,0.455
Mechanical 2:
  circle w0.2: c1.46,-1.1 r0.1
Mechanical 6:
  lines w0.051: -0.65,-1.45 -0.65,1.45 0.65,1.45 0.65,-1.45 -0.65,-1.45
Mechanical 7:
  region: 0.64,0.735 0.64,1.165 0.91,1.165 0.91,0.735
  region: 0.64,-1.165 0.64,-0.735 0.91,-0.735 0.91,-1.165
  region: -0.91,-0.215 -0.91,0.215 -0.64,0.215 -0.64,-0.215
Mechanical 8:
  region: 1.26,-1.45 1.26,-1.475 1.225,-1.51 1.175,-1.51 1.14,-1.475 1.14,-1.45 1.14,-1.425 1.175,-1.39 1.225,-1.39 1.26,-1.425 1.26,-1.45
Mechanical 9:
  region: 0.9,0.735 0.9,1.165 1.2,1.165 1.2,0.735
  region: 0.9,-1.165 0.9,-0.735 1.2,-0.735 1.2,-1.165
  region: -1.2,-0.215 -1.2,0.215 -0.9,0.215 -0.9,-0.215

## S8550 [mm]
pads (3):
  rect 1.25x0.7 smd paste+0.051: 1(1,-0.95) 2(1,0.95) 3(-1,0)
Top Overlay:
  lines w0.152: -0.726,-0.495 -0.726,-1.526 0.726,-1.526 ; -0.726,0.495 -0.726,1.526 0.726,1.526 ; 0.726,-0.455 0.726,0.455
Mechanical 2:
  circle w0.2: c1.45,-0.95 r0.1
Mechanical 6:
  lines w0.051: -0.65,-1.45 0.65,-1.45 0.65,1.45 -0.65,1.45 -0.65,-1.45
Mechanical 7:
  region: -0.81,-0.2 -0.81,0.2 -0.64,0.2 -0.64,-0.2
  region: 0.64,0.75 0.64,1.15 0.81,1.15 0.81,0.75
  region: 0.64,-1.15 0.64,-0.75 0.81,-0.75 0.81,-1.15
Mechanical 8:
  region: 1.26,-1.45 1.26,-1.475 1.225,-1.51 1.175,-1.51 1.14,-1.475 1.14,-1.45 1.14,-1.425 1.175,-1.39 1.225,-1.39 1.26,-1.425 1.26,-1.45
Mechanical 9:
  region: -1.2,-0.2 -1.2,0.2 -0.8,0.2 -0.8,-0.2
  region: 0.8,0.75 0.8,1.15 1.2,1.15 1.2,0.75
  region: 0.8,-1.15 0.8,-0.75 1.2,-0.75 1.2,-1.15

## STC89C52RC_CoreBoard [mm]
pads (40):
  rect 1.7x1.7 hole 1.1: 1(1.406,-7.239) 40(37.22,-7.239)
  round 1.7 hole 1.1: 2(1.406,-9.779) 3(1.406,-12.319) 4(1.406,-14.859) 5(1.406,-17.399) 6(1.406,-19.939) 7(1.406,-22.479) 8(1.406,-25.019) 9(1.406,-27.559) 10(1.406,-30.099) 11(1.406,-32.639) 12(1.406,-35.179) 13(1.406,-37.719) 14(1.406,-40.259) 15(1.406,-42.799) 16(1.406,-45.339) 17(1.406,-47.879) 18(1.406,-50.419) 19(1.406,-52.959) 20(1.406,-55.499) 21(37.22,-55.499) 22(37.22,-52.959) 23(37.22,-50.419) 24(37.22,-47.879) 25(37.22,-45.339) 26(37.22,-42.799) 27(37.22,-40.259) 28(37.22,-37.719) 29(37.22,-35.179) 30(37.22,-32.639) 31(37.22,-30.099) 32(37.22,-27.559) 33(37.22,-25.019) 34(37.22,-22.479) 35(37.22,-19.939) 36(37.22,-17.399) 37(37.22,-14.859) 38(37.22,-12.319) 39(37.22,-9.779)
Top Overlay:
  lines w0.254: 0.136,-56.769 0.136,-5.969 ; 0.136,-56.769 2.676,-56.769 ; 0.136,-56.769 0.136,-5.969 ; 0.136,-56.769 2.676,-56.769 ; 0.136,-5.969 2.676,-5.969 ; 0.136,-5.969 2.676,-5.969 ; 2.676,-56.769 2.676,-5.969 ; 2.676,-56.769 2.676,-5.969 ; 35.95,-56.769 35.95,-5.969 ; 35.95,-56.769 38.49,-56.769 ; 35.95,-56.769 35.95,-5.969 ; 35.95,-56.769 38.49,-56.769 ; 35.95,-5.969 38.49,-5.969 ; 35.95,-5.969 38.49,-5.969 ; 38.49,-56.769 38.49,-5.969 ; 38.49,-56.769 38.49,-5.969 ; 0,-62.23 0,0 38.61,0 38.61,-62.23 0,-62.23 ; 14.987,-63.373 14.987,-57.658 23.623,-57.658 23.623,-63.373 14.987,-63.373

## SW-SMD_4P-L6.0-W6.0-P4.50-LS9.0-1 [mm]
pads (4):
  rect 2x1.3 smd paste+0.051: 1(-4.2,2.25) 2(-4.2,-2.25) 3(4.2,2.25) 4(4.2,-2.25)
Top Overlay:
  circle w0.254: c0,0 r1.4
  circle w0.254: c2,2 r0.361
  circle w0.254: c-2,2 r0.361
  circle w0.254: c-2,-2 r0.361
  circle w0.254: c2,-2 r0.361
  lines w0.254: -3,-3 -3,3 3,3 3,-3 -3,-3
Mechanical 6:
  lines w0.051: -3,-3 -3,3 3,3 3,-3 -3,-3
Mechanical 7:
  region: 2.99,1.9 2.99,2.6 3.71,2.6 3.71,1.9
  region: 2.99,-2.6 2.99,-1.9 3.71,-1.9 3.71,-2.6
  region: -3.71,-2.6 -3.71,-1.9 -2.99,-1.9 -2.99,-2.6
  region: -3.71,1.9 -3.71,2.6 -2.99,2.6 -2.99,1.9
Mechanical 8:
  region: -4.44,3 -4.44,2.975 -4.475,2.94 -4.525,2.94 -4.56,2.975 -4.56,3 -4.56,3.025 -4.525,3.06 -4.475,3.06 -4.44,3.025 -4.44,3
Mechanical 9:
  region: 3.7,1.9 3.7,2.6 4.5,2.6 4.5,1.9
  region: 3.7,-2.6 3.7,-1.9 4.5,-1.9 4.5,-2.6
  region: -4.5,-2.6 -4.5,-1.9 -3.7,-1.9 -3.7,-2.6
  region: -4.5,1.9 -4.5,2.6 -3.7,2.6 -3.7,1.9